# Altium schematic symbol library BZT52H-A3V3-QX.SchLib: 1 symbol
Pins are listed as number, name and electrical type; pins without a type are passive.

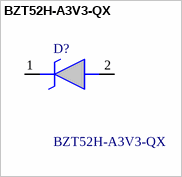
[diagram p0: symbol BZT52H-A3V3-QX]

## BZT52H-A3V3-QX
designator D?
Zener Diodes BZT52H-A3V3-Q/SOD123F/SOD2; Manufacturer_Name: Nexperia; Geometry.Height: 1.2mm; Mouser Part Number: 771-BZT52H-A3V3-QX; Mouser Price/Stock: https://www.mouser.co.uk/ProductDetail/Nexperia/BZT52H-A3V3-QX?qs=A6eO%252BMLsxmSzLn%252BZoY0yAg%3D%3D; Manufacturer_Part_Number: BZT52H-A3V3-QX; Datasheet Link: https://assets.nexperia.com/documents/data-sheet/BZT52H-Q_SER.pdf
footprint SODFL3516X120N
pins: 1 K, 2 A